# Altium footprint library Pakage_lib.pcblib: 90 footprints (part 3 of 6)
Each footprint in its own frame and in the unit in brackets; x right, y up, seen from the top. Pads: shape width x height; smd on the part's side, far side on the other; paste and mask are expansions set on the pad; w line width, h text height; cw(c..) or ccw(c..) is an arc to the next point about the centre after c.
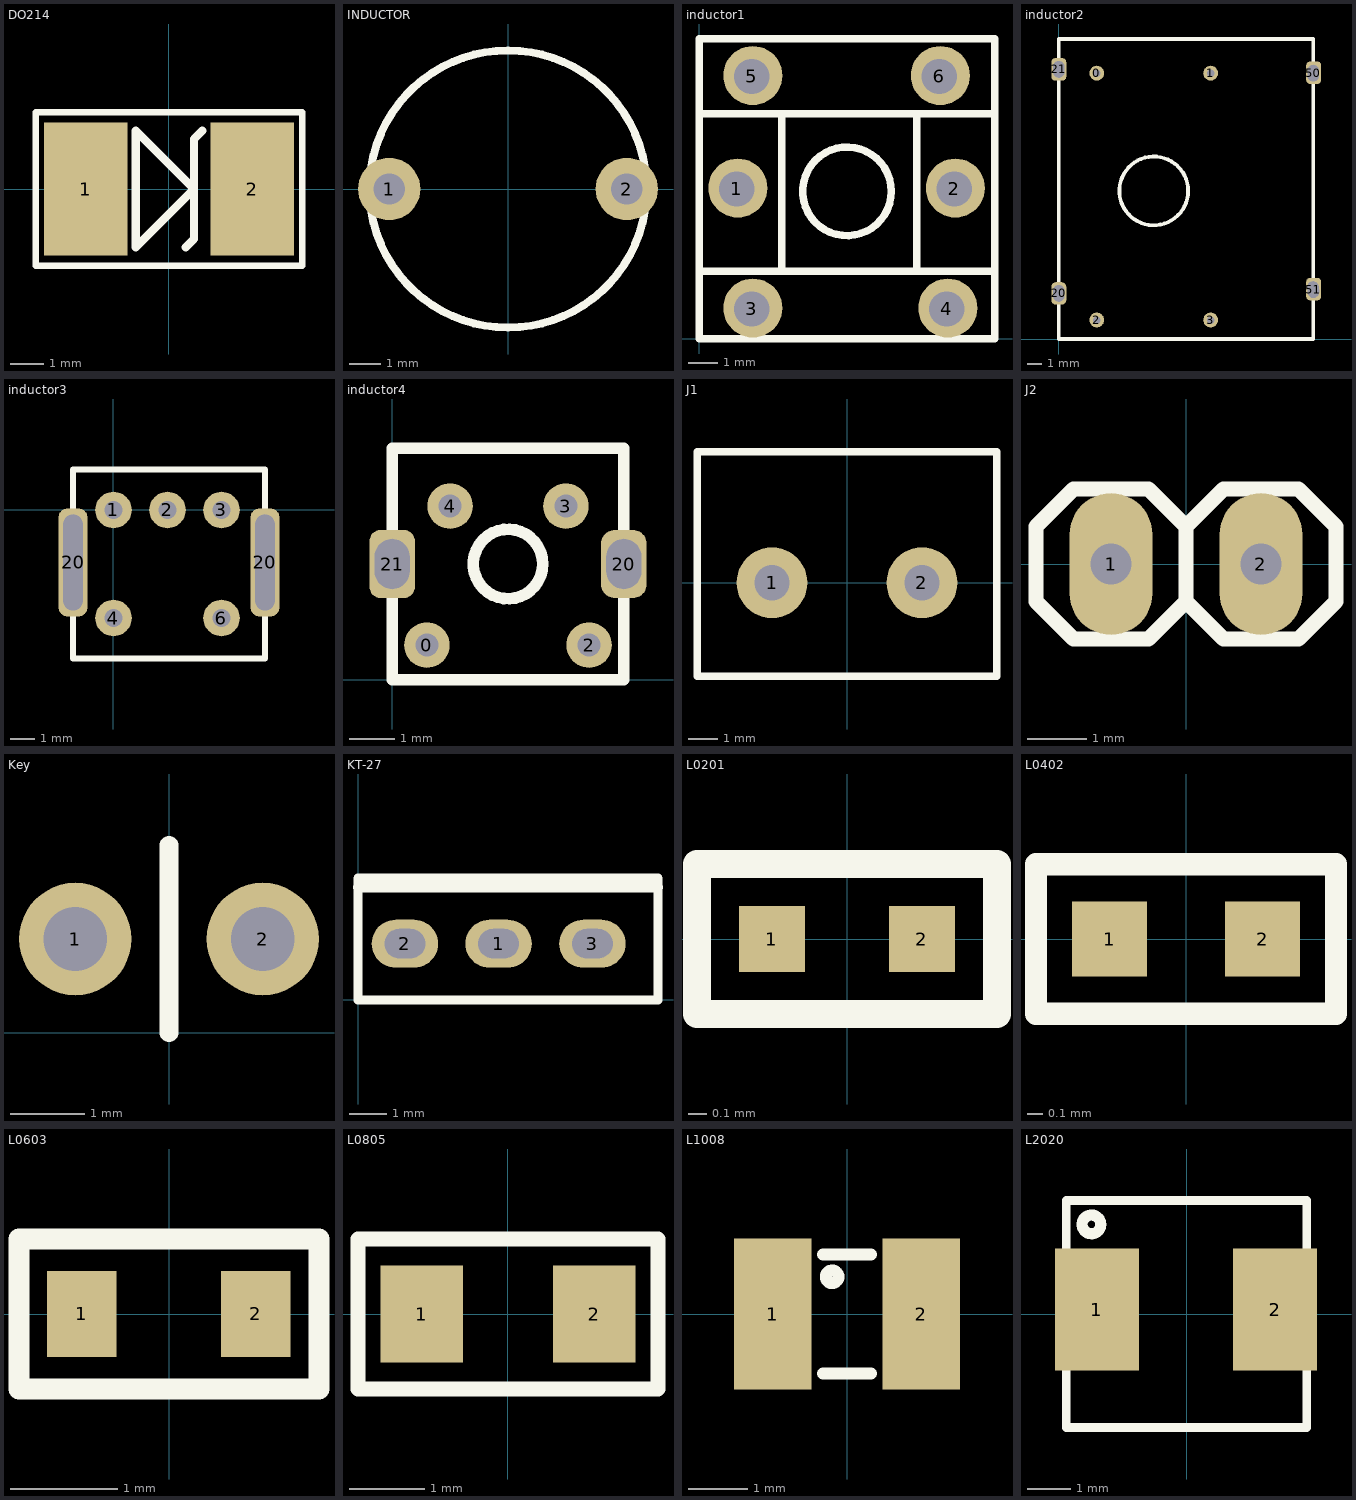
[diagram p2: the footprints below, top view; thin cyan lines are the x and y axes]

## DO214 [mm] "Diode Body 6 x 4 mm (LxW typ)"
height 3.5
pads (2):
  rect 2.5x4 smd: 1(-2.5,0) 2(2.5,0)
Top Overlay:
  lines w0.2: -4,-2.3 -4,2.3 4,2.3 4,-2.3 -4,-2.3
  lines w0.254: 0.5,-1.75 0.75,-1.5 0.75,1.5 1,1.75 ; -1,-1.75 0.75,0 -1,1.75 -1,-1.75
3D body "User Library-S1G-1.STEP": height 2.7, standoff 0, extent -2.8,-1.5 2.8,1.45

## INDUCTOR [mm]
pads (2):
  round 2 hole 1: 1(-3.81,0) 2(3.81,0)
Top Overlay:
  circle w0.254: c0,0 r4.445

## inductor1 [mm]
pads (6):
  round 2 hole 1.2 copper offset 0.032,0.032: 1(1.27,5.08) 2(8.636,5.08) 3(1.778,1.016) 4(8.382,1.016) 5(1.778,8.89) 6(8.128,8.89)
Top Overlay:
  circle w0.254: c5,5 r1.5
  lines w0.25: 0,0 0,10.16
  lines w0.254: 0,0 10,0 10,10.16 ; 0,2.286 8.128,2.286 9.906,2.286 ; 0,7.62 8.128,7.62 9.906,7.62 ; 0,10 0,10.16 2.341,10.16 ; 2.032,10.16 8.294,10.16 10,10.16 ; 2.794,2.286 2.794,7.62 ; 7.366,2.286 7.366,7.62 ; 10,10 10,10.16

## inductor2 [mm]
pads (8):
  round 1 hole 0.5: 0(2.54,17.78) 1(10.16,17.78) 2(2.54,1.27) 3(10.16,1.27)
  rrect60% 1x1.5 hole 0.762 slot 1.1 at 90 deg: 20(0,3.048)
  rrect50% 1x1.5 hole 0.762 slot 1.1 at 90 deg: 21(0,18.034)
  rrect50% 1x1.5 hole 0.76 slot 1.1 at 90 deg copper offset 0.032,0.032: 50(17.018,17.78)
  rrect50% 1x1.5 hole 0.76 slot 1.1 at 93 deg copper offset 0.032,0.032: 51(17.018,3.302)
Top Overlay:
  circle w0.254: c6.35,9.906 r2.3
  lines w0.254: 0,20 0,0 17,0 ; 0,20.066 17,20.066 ; 17.018,0 17.018,20

## inductor3 [mil]
pads (7):
  round 60 hole 30: 1(0,0) 2(88.58,0) 3(177.17,0) 4(0,-177.17) 6(177.17,-177.17)
  rrect60% 47.24x177.17 hole 31.5 slot 157.48 at 90 deg: 20(-66.42,-86.1) 20(248.54,-86.1)
Top Overlay:
  lines w10: -61.46,66.42 -66.42,66.42 ; 243.58,-243.58 248.54,-243.58 ; 243.58,66.42 248.54,66.42 ; -66.42,66.42 -66.42,-243.58 248.54,-243.58 ; -66.42,66.42 248.54,66.42 ; 248.54,-243.58 248.54,66.42

## inductor4 [mm]
pads (6):
  round 1 hole 0.5: 0(0.762,0.762) 2(4.318,0.762) 3(3.81,3.81) 4(1.27,3.81)
  rrect60% 1x1.5 hole 0.762 slot 1.1 at 90 deg: 20(5.08,2.54)
  rrect50% 1x1.5 hole 0.762 slot 1.1 at 90 deg: 21(0,2.54)
Top Overlay:
  circle w0.254: c2.54,2.54 r0.762
  lines w0.254: 0,0 0,5.08 5.08,5.08 5.08,0 0,0

## J1 [mm]
pads (2):
  round 2.4 hole 1.2: 1(-2.54,0) 2(2.54,0)
Top Overlay:
  lines w0.254: -5.08,-3.175 -5.08,4.445 5.08,4.445 5.08,-3.175 -5.08,-3.175

## J2 [mm]
pads (2):
  oval 1.4x2.4 hole 0.7: 1(-1.27,0) 2(1.27,0)
Top Overlay:
  lines w0.254: 0,-0.635 -0.635,-1.27 -1.905,-1.27 -2.54,-0.635 -2.54,0.635 -1.905,1.27 -0.635,1.27 0,0.635 ; 0,-0.635 0,0.635 ; 0,-0.635 0.635,-1.27 1.905,-1.27 2.54,-0.635 2.54,0.635 1.905,1.27 0.635,1.27 0,0.635

## Key [mil]
pads (2):
  round 60 hole 33.94: 1(-50,50) 2(50,50)
Top Overlay:
  lines w10: 0,0 0,100

## KT-27 [mm]
pads (3):
  oval 1.8x1.3 hole 0.8 slot 1.1 at 0 deg: 1(3.81,1.524) 2(1.27,1.524) 3(6.35,1.524)
Top Overlay:
  lines w0.254: 0,0 8.128,0 8.128,3.048 8.128,3.302 0,3.302 0,3.048 0,0
  lines w0.284: 0,3.048 8.128,3.048

## L0201 [mm] "SMD Body 0.6 x 0.3 mm (LxW typ)"
height 0.35
pads (2):
  rect 0.35x0.35 smd: 1(-0.4,0) 2(0.4,0)
Top Overlay:
  lines w0.15: -0.8,-0.4 0.8,-0.4 0.8,0.4 -0.8,0.4 -0.8,-0.4
3D body "User Library-res0201-1.STEP": height 0.23, standoff 0, extent -0.3,-0.15 0.3,0.15

## L0402 [mm]
pads (2):
  rect 0.5x0.5 smd: 1(-0.51,0) 2(0.51,0)
Top Overlay:
  lines w0.15: -1,-0.5 -1,0.5 1,0.5 1,-0.5 -1,-0.5
3D body "User Library-res0402-1.STEP": height 0.3, standoff 0, extent -0.5,-0.25 0.5,0.25

## L0603 [mm]
pads (2):
  rect 0.65x0.8 smd: 1(-0.815,0) 2(0.81,0)
Top Overlay:
  lines w0.2: -1.4,-0.7 1.4,-0.7 1.4,0.7 -1.4,0.7 -1.4,-0.7
3D body "User Library-Chip Resistor_0603 (1608).STEP": height 0.47, standoff 0, extent -0.775,-0.4 0.825,0.402

## L0805 [mm]
pads (2):
  rect 1.1x1.3 smd: 1(-1.15,0) 2(1.15,0)
Top Overlay:
  lines w0.2: -2,-1 2,-1 2,1 -2,1 -2,-1
3D body "User Library-CRS0805.STEP": height 0.5, standoff 0, extent -1,-0.625 1,0.625

## L1008 [mm] "Inductor 1008 package"
pads (2):
  rect 1.3x2.54 smd: 1(-1.25,0) 2(1.25,0)
Top Overlay:
  circle w0.2: c-0.25,0.625 r0.106
  lines w0.2: -0.4,-1 0.4,-1 ; -0.4,1 0.4,1
3D body: height 0.9, standoff 0, extent -1.249,-0.999 1.249,0.999

## L2020 [mm]
pads (2):
  rect 1.915x2.79 smd: 1(-2.05,0.1) 2(2.025,0.1)
Top Overlay:
  circle w0.254: c-2.175,2.05 r0.214
  lines w0.2: -2.75,-2.6 2.75,-2.6 2.75,2.6 -2.75,2.6 -2.75,-2.6
3D body "SMD_2020.stp": height 2, standoff 0.08, extent -2.751,-2.561 2.7,2.585